# Altium footprint library AdapterBoard.PcbLib: 1 footprints
Each footprint in its own frame and in the unit in brackets; x right, y up, seen from the top. Pads: shape width x height; smd on the part's side, far side on the other; paste and mask are expansions set on the pad; w line width, h text height; cw(c..) or ccw(c..) is an arc to the next point about the centre after c.
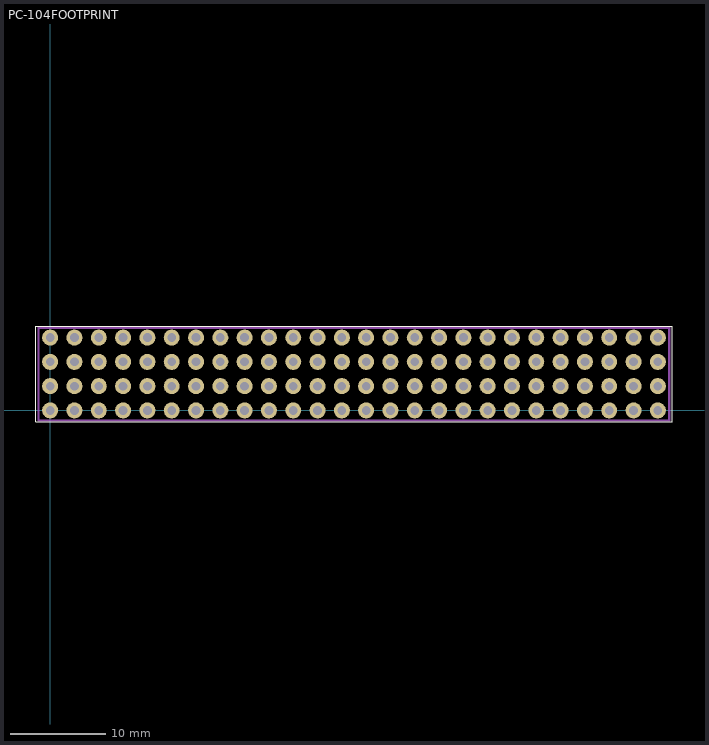
[diagram p0: the footprint, top view; thin cyan lines are the x and y axes]

## PC-104FOOTPRINT [mil]
pads (104):
  round 65.98 hole 35.98 mask+2.99: H1_1(0,0) H1_2(0,100) H1_3(100,0) H1_4(100,100) H1_5(200,0) H1_6(200,100) H1_7(300,0) H1_8(300,100) H1_9(400,0) H1_10(400,100) H1_11(500,0) H1_12(500,100) H1_13(600,0) H1_14(600,100) H1_15(700,0) H1_16(700,100) H1_17(800,0) H1_18(800,100) H1_19(900,0) H1_20(900,100) H1_21(1000,0) H1_22(1000,100) H1_23(1100,0) H1_24(1100,100) H1_25(1200,0) H1_26(1200,100) H1_27(1300,0) H1_28(1300,100) H1_29(1400,0) H1_30(1400,100) H1_31(1500,0) H1_32(1500,100) H1_33(1600,0) H1_34(1600,100) H1_35(1700,0) H1_36(1700,100) H1_37(1800,0) H1_38(1800,100) H1_39(1900,0) H1_40(1900,100) H1_41(2000,0) H1_42(2000,100) H1_43(2100,0) H1_44(2100,100) H1_45(2200,0) H1_46(2200,100) H1_47(2300,0) H1_48(2300,100) H1_49(2400,0) H1_50(2400,100) H1_51(2500,0) H1_52(2500,100) H2_1(0,200) H2_2(0,300) H2_3(100,200) H2_4(100,300) H2_5(200,200) H2_6(200,300) H2_7(300,200) H2_8(300,300) H2_9(400,200) H2_10(400,300) H2_11(500,200) H2_12(500,300) H2_13(600,200) H2_14(600,300) H2_15(700,200) H2_16(700,300) H2_17(800,200) H2_18(800,300) H2_19(900,200) H2_20(900,300) H2_21(1000,200) H2_22(1000,300) H2_23(1100,200) H2_24(1100,300) H2_25(1200,200) H2_26(1200,300) H2_27(1300,200) H2_28(1300,300) H2_29(1400,200) H2_30(1400,300) H2_31(1500,200) H2_32(1500,300) H2_33(1600,200) H2_34(1600,300) H2_35(1700,200) H2_36(1700,300) H2_37(1800,200) H2_38(1800,300) H2_39(1900,200) H2_40(1900,300) H2_41(2000,200) H2_42(2000,300) H2_43(2100,200) H2_44(2100,300) H2_45(2200,200) H2_46(2200,300) H2_47(2300,200) H2_48(2300,300) H2_49(2400,200) H2_50(2400,300) H2_51(2500,200) H2_52(2500,300)
Top Layer:
  text "Umb" at 0,400 h60
  text "H1" at -275.59,39.37 h60
  text "H2" at -275.59,196.85 h60
  text "1" at -100,0 h60
  text "2" at -100,100 h60
  text "1" at -100,200 h60
  text "2" at -100,300 h60
  text "51" at 2586.61,-31.5 h60
  text "52" at 2586.61,66.93 h60
  text "51" at 2582.68,165.35 h60
  text "52" at 2582.68,263.78 h60
Top Overlay:
  lines w3.94: -59.06,-46.85 2559.06,-46.85 2559.06,346.85 -59.06,346.85 -59.06,-46.85
Mechanical 1:
  lines w10: -47.99,-41.18 2547.24,-41.18 2547.24,340 -47.99,340 -47.99,-41.18
  text "J1" at 1551.45,153.3 h30